# Altium footprint library S29GL064S70TFI010.PcbLib: 3 footprints
Each footprint in its own frame and in the unit in brackets; x right, y up, seen from the top. Pads: shape width x height; smd on the part's side, far side on the other; paste and mask are expansions set on the pad; w line width, h text height; cw(c..) or ccw(c..) is an arc to the next point about the centre after c.
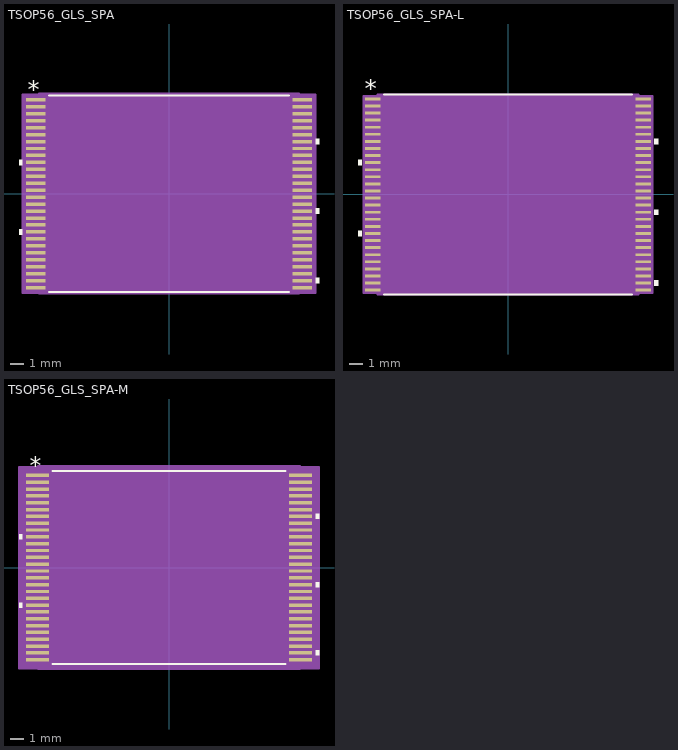
[diagram p0: the footprints below, top view; thin cyan lines are the x and y axes]

## TSOP56_GLS_SPA [mil]
pads (56):
  rect 56x10 smd paste+0 mask+0: 1(-383.5,270) 2(-383.5,250) 3(-383.5,230) 4(-383.5,210) 5(-383.5,190) 6(-383.5,170) 7(-383.5,150) 8(-383.5,130) 9(-383.5,110) 10(-383.5,90) 11(-383.5,70) 12(-383.5,50) 13(-383.5,30) 14(-383.5,10) 15(-383.5,-10) 16(-383.5,-30) 17(-383.5,-50) 18(-383.5,-70) 19(-383.5,-90) 20(-383.5,-110) 21(-383.5,-130) 22(-383.5,-150) 23(-383.5,-170) 24(-383.5,-190) 25(-383.5,-210) 26(-383.5,-230) 27(-383.5,-250) 28(-383.5,-270) 29(383.5,-270) 30(383.5,-250) 31(383.5,-230) 32(383.5,-210) 33(383.5,-190) 34(383.5,-170) 35(383.5,-150) 36(383.5,-130) 37(383.5,-110) 38(383.5,-90) 39(383.5,-70) 40(383.5,-50) 41(383.5,-30) 42(383.5,-10) 43(383.5,10) 44(383.5,30) 45(383.5,50) 46(383.5,70) 47(383.5,90) 48(383.5,110) 49(383.5,130) 50(383.5,150) 51(383.5,170) 52(383.5,190) 53(383.5,210) 54(383.5,230) 55(383.5,250) 56(383.5,270)
Top Overlay:
  region: 421.5,157.5 431.5,157.5 431.5,142.5 421.5,142.5
  region: 421.5,-42.5 431.5,-42.5 431.5,-57.5 421.5,-57.5
  region: 421.5,-242.5 431.5,-242.5 431.5,-257.5 421.5,-257.5
  region: -421.5,-102.5 -431.5,-102.5 -431.5,-117.5 -421.5,-117.5
  region: -421.5,97.5 -431.5,97.5 -431.5,82.5 -421.5,82.5
  lines w6: -344.76,-282.5 344.76,-282.5 ; -344.76,282.5 344.76,282.5
  text "*" at -406,275 h50
Mechanical 13:
  drawing of 229 lines, arcs and shapes, not listed
  text "*" at -361.5,224.5 h50
Mechanical 15:
  region: -374,-285 -421.5,-285 -421.5,285 -374,285 -374,287.5 374,287.5 374,285 421.5,285 421.5,-285 374,-285 374,-287.5 -374,-287.5
  lines w6: -421.5,-285 -374,-285 -374,-287.5 374,-287.5 374,-285 421.5,-285 421.5,285 374,285 374,287.5 -374,287.5 -374,285 -421.5,285 -421.5,-285
3D body "TSOP56_GLS_SPA.step": height 47.09, standoff 0, extent -397.52,-277.48 397.52,277.48

## TSOP56_GLS_SPA-L [mil]
pads (56):
  rect 44x8 smd paste+0 mask+0: 1(-381.5,270) 2(-381.5,250) 3(-381.5,230) 4(-381.5,210) 5(-381.5,190) 6(-381.5,170) 7(-381.5,150) 8(-381.5,130) 9(-381.5,110) 10(-381.5,90) 11(-381.5,70) 12(-381.5,50) 13(-381.5,30) 14(-381.5,10) 15(-381.5,-10) 16(-381.5,-30) 17(-381.5,-50) 18(-381.5,-70) 19(-381.5,-90) 20(-381.5,-110) 21(-381.5,-130) 22(-381.5,-150) 23(-381.5,-170) 24(-381.5,-190) 25(-381.5,-210) 26(-381.5,-230) 27(-381.5,-250) 28(-381.5,-270) 29(381.5,-270) 30(381.5,-250) 31(381.5,-230) 32(381.5,-210) 33(381.5,-190) 34(381.5,-170) 35(381.5,-150) 36(381.5,-130) 37(381.5,-110) 38(381.5,-90) 39(381.5,-70) 40(381.5,-50) 41(381.5,-30) 42(381.5,-10) 43(381.5,10) 44(381.5,30) 45(381.5,50) 46(381.5,70) 47(381.5,90) 48(381.5,110) 49(381.5,130) 50(381.5,150) 51(381.5,170) 52(381.5,190) 53(381.5,210) 54(381.5,230) 55(381.5,250) 56(381.5,270)
Top Overlay:
  region: -413.5,97.5 -423.5,97.5 -423.5,82.5 -413.5,82.5
  region: -413.5,-102.5 -423.5,-102.5 -423.5,-117.5 -413.5,-117.5
  region: 413.5,-242.5 423.5,-242.5 423.5,-257.5 413.5,-257.5
  region: 413.5,-42.5 423.5,-42.5 423.5,-57.5 413.5,-57.5
  region: 413.5,157.5 423.5,157.5 423.5,142.5 413.5,142.5
  lines w6: -349.53,-282.5 349.53,-282.5 ; -349.53,282.5 349.53,282.5
  text "*" at -404,273 h50
Mechanical 13:
  drawing of 229 lines, arcs and shapes, not listed
  text "*" at -361.5,224.5 h50
Mechanical 15:
  region: -368,-278 -407.5,-278 -407.5,278 -368,278 -368,281.5 368,281.5 368,278 407.5,278 407.5,-278 368,-278 368,-281.5 -368,-281.5
  lines w6: -407.5,-278 -407.5,278 -368,278 -368,281.5 368,281.5 368,278 407.5,278 407.5,-278 368,-278 368,-281.5 -368,-281.5 -368,-278 -407.5,-278
3D body "TSOP56_GLS_SPA.step": height 47.09, standoff 0, extent -397.52,-277.48 397.52,277.48

## TSOP56_GLS_SPA-M [mil]
pads (56):
  rect 68x10 smd paste+0 mask+0: 1(-385.5,270) 2(-385.5,250) 3(-385.5,230) 4(-385.5,210) 5(-385.5,190) 6(-385.5,170) 7(-385.5,150) 8(-385.5,130) 9(-385.5,110) 10(-385.5,90) 11(-385.5,70) 12(-385.5,50) 13(-385.5,30) 14(-385.5,10) 15(-385.5,-10) 16(-385.5,-30) 17(-385.5,-50) 18(-385.5,-70) 19(-385.5,-90) 20(-385.5,-110) 21(-385.5,-130) 22(-385.5,-150) 23(-385.5,-170) 24(-385.5,-190) 25(-385.5,-210) 26(-385.5,-230) 27(-385.5,-250) 28(-385.5,-270) 29(385.5,-270) 30(385.5,-250) 31(385.5,-230) 32(385.5,-210) 33(385.5,-190) 34(385.5,-170) 35(385.5,-150) 36(385.5,-130) 37(385.5,-110) 38(385.5,-90) 39(385.5,-70) 40(385.5,-50) 41(385.5,-30) 42(385.5,-10) 43(385.5,10) 44(385.5,30) 45(385.5,50) 46(385.5,70) 47(385.5,90) 48(385.5,110) 49(385.5,130) 50(385.5,150) 51(385.5,170) 52(385.5,190) 53(385.5,210) 54(385.5,230) 55(385.5,250) 56(385.5,270)
Top Overlay:
  region: -429.5,97.5 -439.5,97.5 -439.5,82.5 -429.5,82.5
  region: -429.5,-102.5 -439.5,-102.5 -439.5,-117.5 -429.5,-117.5
  region: 429.5,-242.5 439.5,-242.5 439.5,-257.5 429.5,-257.5
  region: 429.5,-42.5 439.5,-42.5 439.5,-57.5 429.5,-57.5
  region: 429.5,157.5 439.5,157.5 439.5,142.5 429.5,142.5
  lines w6: -340.76,-282.5 340.76,-282.5 ; -340.76,282.5 340.76,282.5
  text "*" at -408,275 h50
Mechanical 13:
  drawing of 229 lines, arcs and shapes, not listed
  text "*" at -361.5,224.5 h50
Mechanical 15:
  region: -384,-295 -439.5,-295 -439.5,295 -384,295 -384,297.5 384,297.5 384,295 439.5,295 439.5,-295 384,-295 384,-297.5 -384,-297.5
  lines w6: -439.5,-295 -439.5,295 -384,295 -384,297.5 384,297.5 384,295 439.5,295 439.5,-295 384,-295 384,-297.5 -384,-297.5 -384,-295 -439.5,-295
3D body "TSOP56_GLS_SPA.step": height 47.09, standoff 0, extent -397.52,-277.48 397.52,277.48